# EAGLE library part 146134-10 (library con-tyco-mod-II)
HEADER
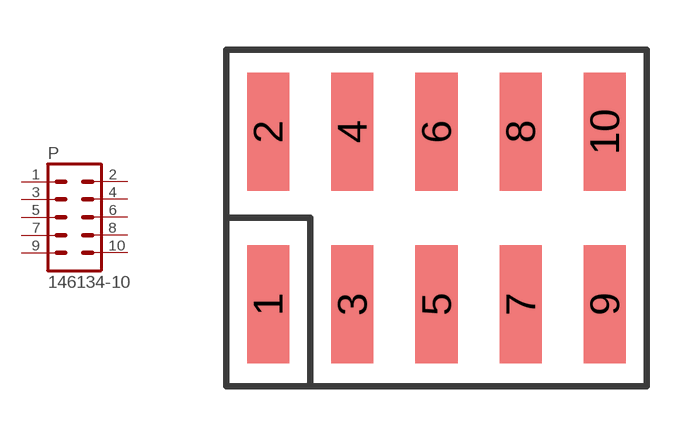
[diagram p2: symbol with the pads of 146134-10; footprint 146134-10]

Designator prefix P

## 146134-10  [146134-10]
1  1  pas
2  2  pas
3  3  pas
4  4  pas
5  5  pas
6  6  pas
7  7  pas
8  8  pas
9  9  pas
10  10  pas

## Footprint 146134-10 (pad centres in mm)
HEADER
smd 1.27 x 3.556: 1 -5.08,-2.603; 2 -5.08,2.603; 3 -2.54,-2.603; 4 -2.54,2.603; 5 0,-2.603; 6 0,2.603; 7 2.54,-2.603; 8 2.54,2.603; 9 5.08,-2.603; 10 5.08,2.603